# EAGLE library part MDB_LD?* (library MDB_HOMEBAK)
Slim Power Relay NAiS Source: http://www.mew-europe.com/.. en_ds_61112_0000.pdf
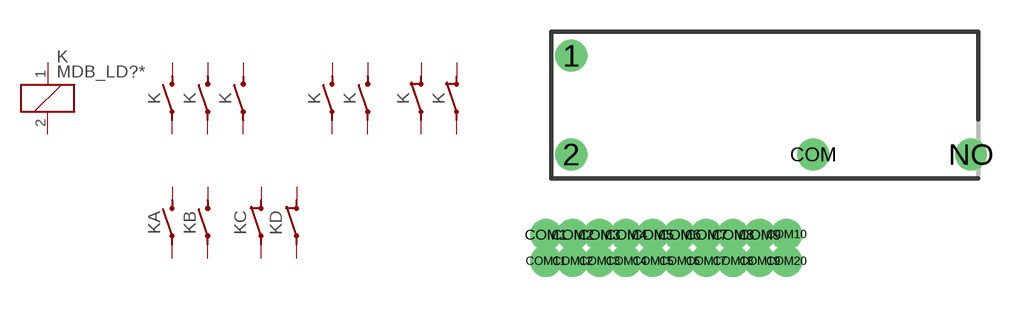
[diagram p57: symbol with the pads of LD; footprint LD]

Designator prefix K; gates 1=K G$1=S_CLOSER G$2=S_CLOSER G$3=S_CLOSER G$4=S_CLOSER G$5=S_CLOSER G$6=S_OPENER G$7=S_OPENER A=S_CLOSER_NAM B=S_CLOSER_NAM C=S_OPENER_NAM D=S_OPENER_NAM

## MDB_LD105 (OC_FARNELL: 3727154; OC_NEWARK: unknown), MDB_LD106 (OC_FARNELL: unknown; OC_NEWARK: unknown), MDB_LD109 (OC_FARNELL: unknown; OC_NEWARK: unknown), MDB_LD112 (MF: FARNELL; MPN: ALD112; OC_FARNELL: 3727166; OC_NEWARK: 70C6003), MDB_LD118 (OC_FARNELL: unknown; OC_NEWARK: unknown), MDB_LD124 (OC_FARNELL: 3727178; OC_NEWARK: unknown), MDB_LD14H (OC_FARNELL: unknown; OC_NEWARK: unknown)  [LD]
1  1:1  pas
2  1:2  pas
COM  G$1:1  pas
COM1  G$1:2  pas
COM2  G$2:1  pas
COM3  G$2:2  pas
COM4  G$3:1  pas
COM5  G$3:2  pas
COM6  G$4:1  pas
COM7  G$4:2  pas
COM8  G$5:1  pas
COM9  G$5:2  pas
COM10  G$6:1  pas
COM11  G$6:2  pas
COM12  G$7:1  pas
COM13  G$7:2  pas
COM14  A:1  pas
COM15  A:2  pas
COM16  B:1  pas
COM17  B:2  pas
COM18  C:1  pas
COM19  C:2  pas
COM20  D:1  pas
NO  D:2  pas

## Footprint LD (pad centres in mm)
Slim Power Relay NAiS Source: http://www.mew-europe.com/.. en_ds_61112_0000.pdf
drill 1: 1 -9.2,2.35; 2 -9.2,-2.35; COM 2.3,-2.35; COM1 -10.4,-6.16; COM2 -9.13,-6.16; COM3 -7.86,-6.16; COM4 -6.59,-6.16; COM5 -5.32,-6.16; COM6 -4.05,-6.16; COM7 -2.78,-6.16; COM8 -1.51,-6.16; COM9 -0.24,-6.16; COM10 1.03,-6.16; COM11 -10.4,-7.43; COM12 -9.13,-7.43; COM13 -7.86,-7.43; COM14 -6.59,-7.43; COM15 -5.32,-7.43; COM16 -4.05,-7.43; COM17 -2.78,-7.43; COM18 -1.51,-7.43; COM19 -0.24,-7.43; COM20 1.03,-7.43; NO 9.8,-2.35